# EAGLE library part QAM-RX2 (library qusar)
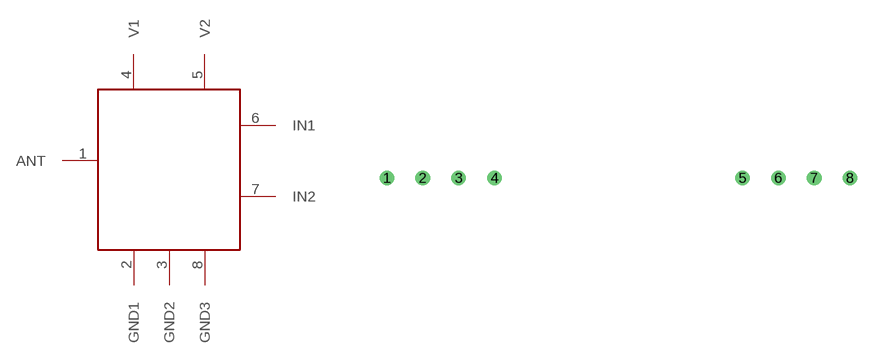
[diagram p0: symbol with the pads of QAM-RX2; footprint QAM-RX2]

Designator prefix -

## QAM-RX2  [QAM-RX2]
1  ANT
2  GND1
3  GND2
4  V1
5  V2
6  IN1
7  IN2
8  GND3

## Footprint QAM-RX2 (pad centres in mm)
drill 0.53 round: 1 0,0; 2 2.54,0; 3 5.08,0; 4 7.62,0; 5 25.2,0; 6 27.74,0; 7 30.28,0; 8 32.82,0